# Altium footprint library pcb_library.PcbLib: 7 footprints
Each footprint in its own frame and in the unit in brackets; x right, y up, seen from the top. Pads: shape width x height; smd on the part's side, far side on the other; paste and mask are expansions set on the pad; w line width, h text height; cw(c..) or ccw(c..) is an arc to the next point about the centre after c.
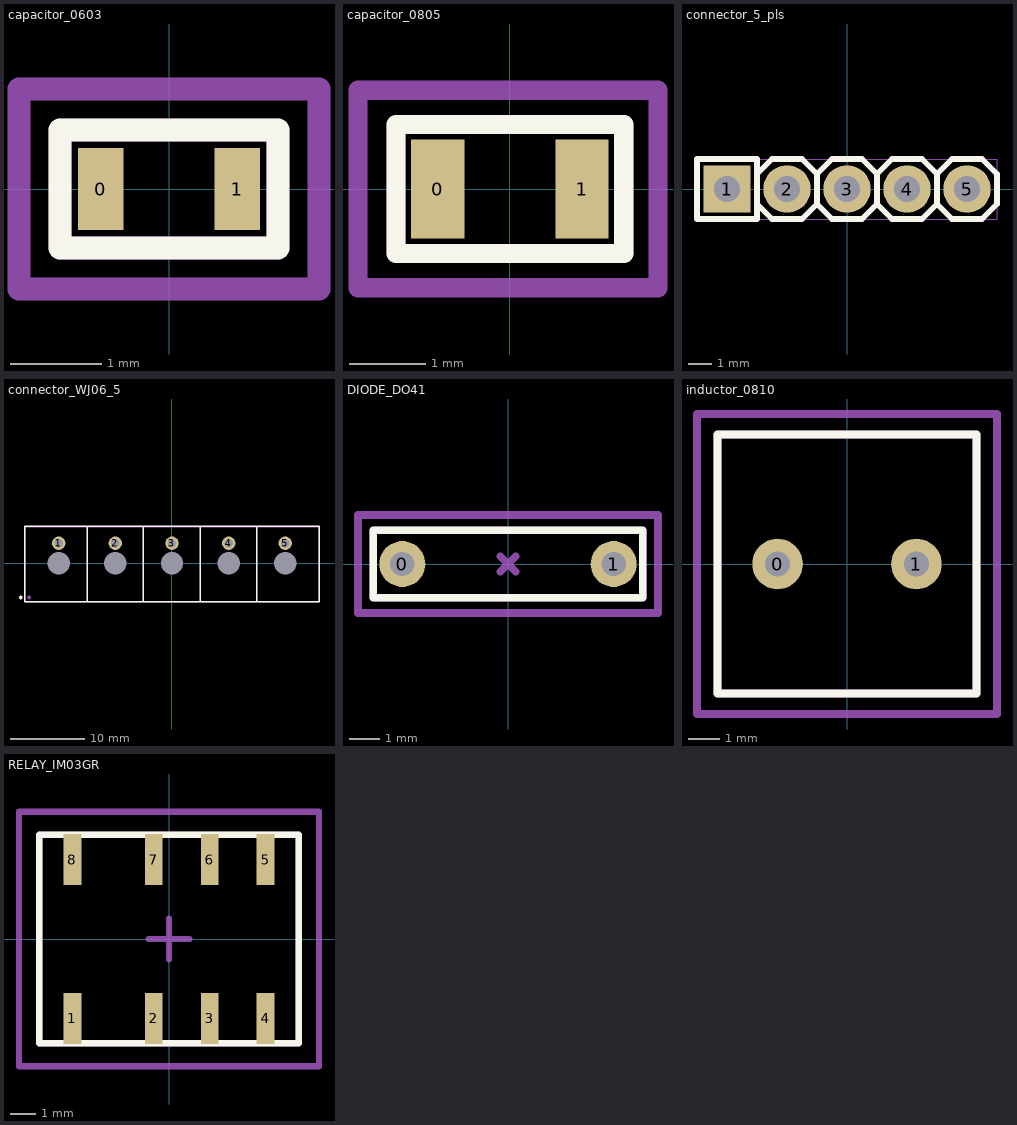
[diagram p0: the footprints below, top view; thin cyan lines are the x and y axes]

## capacitor_0603 [mm]
pads (2):
  rect 0.5x0.9 smd: 0(-0.75,0) 1(0.75,0)
Top Overlay:
  lines w0.254: -1.2,-0.65 1.2,-0.65 1.2,0.65 -1.2,0.65 -1.2,-0.65
Top Assy:
  lines w0.254: -1.2,-0.65 -1.2,0.65 1.2,0.65 1.2,-0.65 -1.2,-0.65
Border:
  lines w0.254: -1.65,-1.1 1.65,-1.1 1.65,1.1 -1.65,1.1 -1.65,-1.1
3D body "smd_cap_0603.stp": height 0.9, standoff 0, extent -0.8,-0.4 0.8,0.4

## capacitor_0805 [mm]
pads (2):
  rect 0.7x1.3 smd: 0(-0.95,0) 1(0.95,0)
Top Overlay:
  lines w0.254: -1.5,-0.85 1.5,-0.85 1.5,0.85 -1.5,0.85 -1.5,-0.85
Top Assy:
  lines w0.254: -1.5,-0.85 -1.5,0.85 1.5,0.85 1.5,-0.85 -1.5,-0.85
Border:
  lines w0.254: -2,-1.3 1.95,-1.3 1.95,1.3 -2,1.3 -2,-1.3
3D body "smd_cap_0805.stp": height 1.3, standoff 0, extent -1,-0.625 1,0.625

## connector_5_pls [mm]
pads (5):
  rect 2x2 hole 1.1: 1(-5.08,0)
  round 2 hole 1.1: 2(-2.54,0) 3(0,0) 4(2.54,0) 5(5.08,0)
Top Overlay:
  lines w0.254: -3.81,-0.635 -3.175,-1.27 -1.905,-1.27 -1.27,-0.635 ; -3.81,0.635 -3.175,1.27 -1.905,1.27 -1.27,0.635 ; -1.27,-0.635 -0.635,-1.27 0.635,-1.27 1.27,-0.635 ; -1.27,-0.635 -1.27,0.635 ; -1.27,0.635 -0.635,1.27 0.635,1.27 1.27,0.635 ; 1.27,-0.635 1.905,-1.27 3.175,-1.27 3.81,-0.635 ; 1.27,-0.635 1.27,0.635 ; 1.27,0.635 1.905,1.27 3.175,1.27 3.81,0.635 ; 3.81,-0.635 4.445,-1.27 5.715,-1.27 6.35,-0.635 6.35,0.635 5.715,1.27 4.445,1.27 3.81,0.635 ; 3.81,-0.635 3.81,0.635 ; -6.35,-1.27 -3.81,-1.27 -3.81,1.27 -6.35,1.27 -6.35,-1.27
Top Assy:
  lines w0.1: -3.81,-0.635 -3.175,-1.27 -1.905,-1.27 -1.27,-0.635 ; -3.81,0.635 -3.175,1.27 -1.905,1.27 -1.27,0.635 ; -1.27,-0.635 -1.27,0.635 ; -1.27,-0.635 -0.635,-1.27 0.635,-1.27 1.27,-0.635 ; -1.27,0.635 -0.635,1.27 0.635,1.27 1.27,0.635 ; 1.27,-0.635 1.27,0.635 ; 1.27,-0.635 1.905,-1.27 3.175,-1.27 3.81,-0.635 ; 1.27,0.635 1.905,1.27 3.175,1.27 3.81,0.635 ; 3.81,-0.635 3.81,0.635 ; 3.81,-0.635 4.445,-1.27 5.715,-1.27 6.35,-0.635 6.35,0.635 5.715,1.27 4.445,1.27 3.81,0.635 ; -6.35,-1.27 -6.35,1.27 -3.81,1.27 -3.81,-1.27 -6.35,-1.27
Border:
  lines w0.05: -6.35,-1.27 -6.35,1.27 6.35,1.27 6.35,-1.27 -6.35,-1.27
  lines w0.1: -0.5,0 0.5,0 ; 0,-0.5 0,0.5
3D body "PLS-5.STEP": height 8.54, standoff -3, extent -6.35,-1.27 6.35,1.27

## connector_WJ06_5 [mm]
pads (12):
  round 1.8 hole 1.1: 1(-15.24,2.7) 2(-7.62,2.7) 3(0,2.7) 4(7.63,2.7) 5(15.23,2.7)
  round 0.5 on Top Overlay: ""(-20.33,-4.6)
  round 0.5 on Mech1: ""(-19.23,-4.6)
  round 2.4 hole 3: ""(-15.24,0) ""(-7.62,0) ""(0,0) ""(7.62,0) ""(15.24,0)
Top Overlay:
  lines w0.2: -11.43,-5.2 -11.43,5 ; -3.03,-5.2 -19.83,-5.2 -19.83,5 -3.03,5 ; 3.78,-5.2 3.78,5 ; 11.38,-5.2 11.38,5 ; -3.87,-5.2 19.78,-5.2 19.78,5 -3.87,5 -3.87,-5.2
Top Assy:
  lines w0.1: -19.74,-5.08 19.78,-5.08 19.78,4.92 -19.74,4.92 -19.74,-5.08
Border:
  lines w0.1: -8.12,0 -7.12,0 ; -7.62,-0.5 -7.62,0.5 ; -19.83,-5.175 19.78,-5.175 19.78,5 -19.83,5 -19.83,-5.175
3D body "Connector 5pin.STEP": height 6.12, standoff 0.04, extent -19.74,-5.08 19.74,4.972

## DIODE_DO41 [mm]
pads (2):
  round 1.5 hole 0.8: 0(-3.45,0) 1(3.45,0)
Top Overlay:
  lines w0.254: -4.4,-1.1 4.4,-1.1 4.4,1.1 -4.4,1.1 -4.4,-1.1
Top Assy:
  lines w0.254: -4.4,-1.1 -4.4,1.1 4.4,1.1 4.4,-1.1 -4.4,-1.1
Border:
  lines w0.254: -0.254,-0.254 0.254,0.254 ; -0.254,0.254 0.254,-0.254 ; -4.9,-1.6 -4.9,1.6 4.9,1.6 4.9,-1.6 -4.9,-1.6
3D body "diode_DO41.stp": height 14, standoff -3, extent -3.849,-0.998 3.849,0.998

## inductor_0810 [mm]
pads (2):
  round 1.6 hole 0.8: 0(-2.2,0) 1(2.2,0)
Top Overlay:
  lines w0.254: -4.1,-4.1 4.1,-4.1 4.1,4.1 -4.1,4.1 -4.1,-4.1
Top Assy:
  lines w0.254: -4.1,-4.1 4.1,-4.1 4.1,4.1 -4.1,4.1 -4.1,-4.1
Border:
  lines w0.254: -4.75,-4.75 4.75,-4.75 4.75,4.75 -4.75,4.75 -4.75,-4.75
3D body "inductor_0810.stp": height 24, standoff -3, extent -4,-4 4,4

## RELAY_IM03GR [mm]
pads (8):
  rect 0.7x2 smd: 1(-3.8,-3.125) 2(-0.6,-3.125) 3(1.6,-3.125) 4(3.8,-3.125) 5(3.8,3.125) 6(1.6,3.125) 7(-0.6,3.125) 8(-3.8,3.125)
Top Overlay:
  lines w0.254: -5.1,-4.1 5.1,-4.1 5.1,4.1 -5.1,4.1 -5.1,-4.1
Top Assy:
  lines w0.254: -5.1,-4.1 5.1,-4.1 5.1,4.1 -5.1,4.1 -5.1,-4.1
Border:
  lines w0.254: -0.8,0 0.8,0 ; 0,-0.8 0,0.8 ; -5.9,-5 5.9,-5 5.9,5 -5.9,5 -5.9,-5
3D body "relay_IM03GR.stp": height 5.65, standoff 0, extent -5,-3.76 5,3.76